# Altium footprint library SnapEDApcb.PcbLib: 1 footprints
Each footprint in its own frame and in the unit in brackets; x right, y up, seen from the top. Pads: shape width x height; smd on the part's side, far side on the other; paste and mask are expansions set on the pad; w line width, h text height; cw(c..) or ccw(c..) is an arc to the next point about the centre after c.
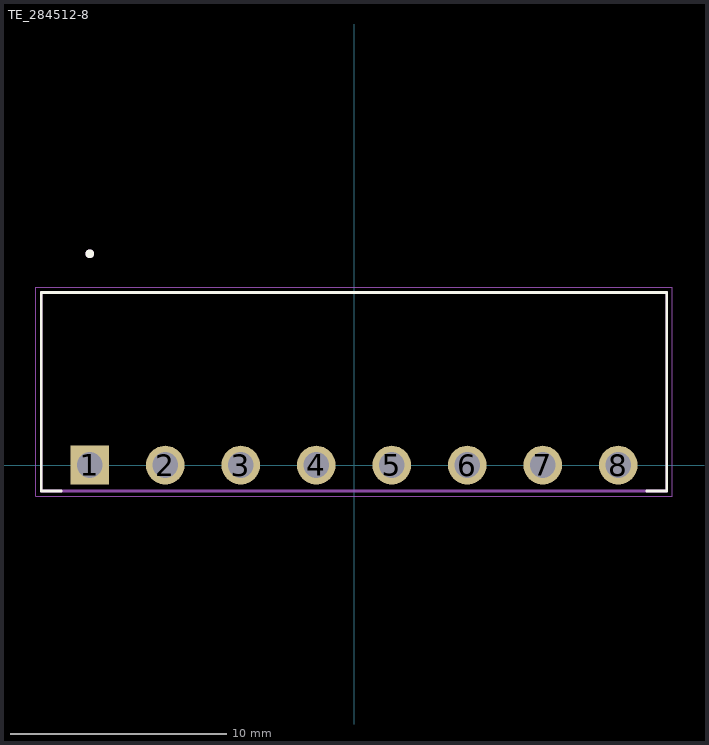
[diagram p0: the footprint, top view; thin cyan lines are the x and y axes]

## TE_284512-8 [mm]
pads (8):
  rect 1.8x1.8 hole 1.2: 1(-12.25,0)
  round 1.8 hole 1.2: 2(-8.75,0) 3(-5.25,0) 4(-1.75,0) 5(1.75,0) 6(5.25,0) 7(8.75,0) 8(12.25,0)
Top Overlay:
  circle w0.2: c-12.25,9.8 r0.1
  lines w0.127: -13.57,-1.2 -14.5,-1.2 -14.5,8 14.5,8 14.5,-1.2 13.57,-1.2
Mechanical 13:
  circle w0.2: c-12.25,9.8 r0.1
  lines w0.127: -14.5,-1.2 14.5,-1.2 14.5,8 -14.5,8 -14.5,-1.2
Mechanical 15:
  lines w0.05: -14.75,-1.45 -14.75,8.25 14.75,8.25 14.75,-1.45 -14.75,-1.45
3D body "284512-8.stp": height 9.33, standoff -1.32, extent -15.014,-1.298 14.986,7.902